# Altium footprint library LIBRARIE_EMILE.PcbLib: 20 footprints (part 1 of 2)
Each footprint in its own frame and in the unit in brackets; x right, y up, seen from the top. Pads: shape width x height; smd on the part's side, far side on the other; paste and mask are expansions set on the pad; w line width, h text height; cw(c..) or ccw(c..) is an arc to the next point about the centre after c.
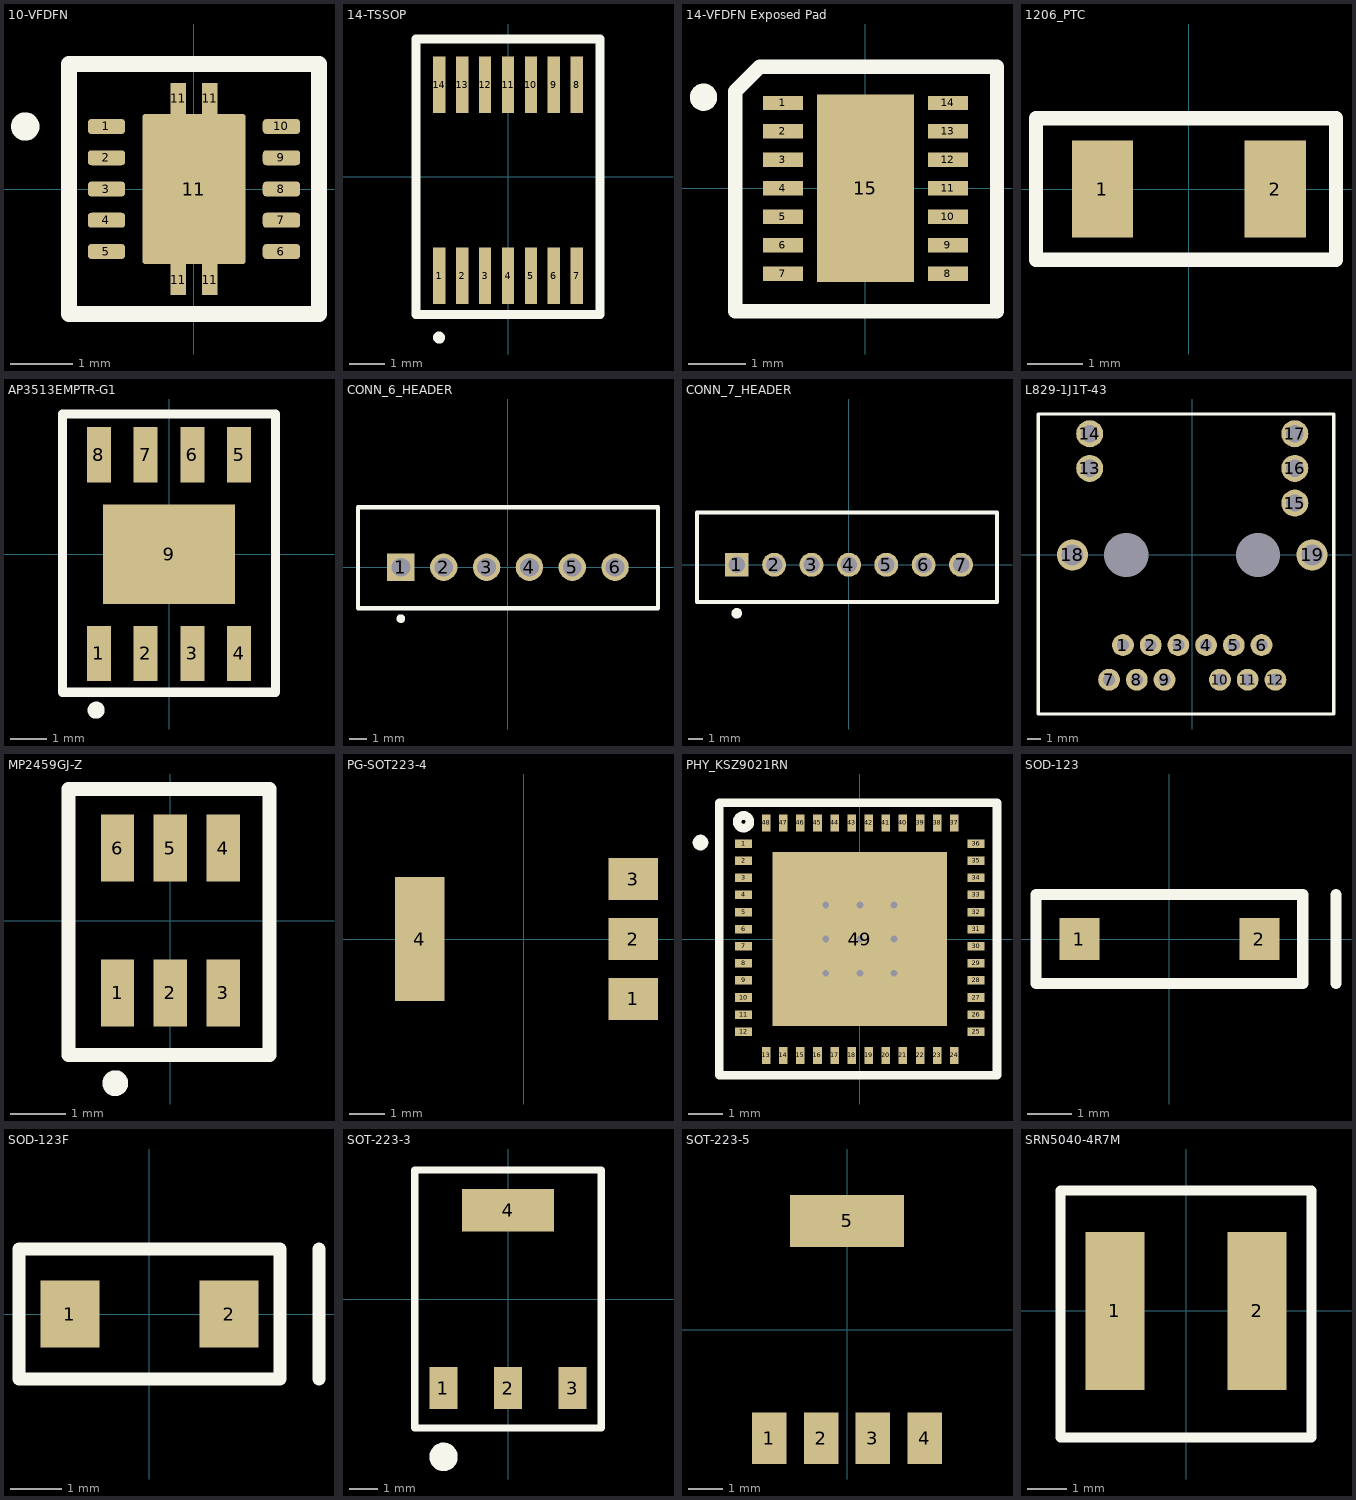
[diagram p0: the footprints below, top view; thin cyan lines are the x and y axes]

## 10-VFDFN [mm]
pads (15):
  rrect50% 0.6x0.24 smd paste-0.025 mask+0.05: 1(-1.4,1) 2(-1.4,0.5) 3(-1.4,0) 4(-1.4,-0.5) 5(-1.4,-1) 6(1.4,-1) 7(1.4,-0.5) 8(1.4,0) 9(1.4,0.5) 10(1.4,1)
  rrect5% 0.25x0.5 smd paste-0.025 mask+0.05: 11(-0.25,-1.45) 11(-0.25,1.45) 11(0.25,-1.45) 11(0.25,1.45)
  rrect5% 1.65x2.4 smd paste-0.025 mask+0.05: 11(0,0)
Top Overlay:
  circle w0.254: c-2.7,1 r0.1
  lines w0.254: -2,-2 -2,2 2,2 2,-2 -2,-2
3D body "10-VFDFN.step": height 1, standoff 0, extent -1.56,-1.562 1.56,1.562

## 14-TSSOP [mm]
pads (14):
  rect 0.35x1.6 smd paste+0 mask+0.05: 1(-1.95,-2.8) 2(-1.3,-2.8) 3(-0.65,-2.8) 4(0,-2.8) 5(0.65,-2.8) 6(1.3,-2.8) 7(1.95,-2.8) 8(1.95,2.6) 9(1.3,2.6) 10(0.65,2.6) 11(0,2.6) 12(-0.65,2.6) 13(-1.3,2.6) 14(-1.95,2.6)
Top Overlay:
  circle w0.254: c-1.95,-4.55 r0.041
  lines w0.254: -2.6,-3.9 2.6,-3.9 2.6,3.9 -2.6,3.9 -2.6,-3.9
3D body "User Library-tssop14-2.step": height 1.2, standoff 0, extent -2.55,-3.2 2.55,3.2

## 14-VFDFN Exposed Pad [mm]
pads (15):
  rect 0.7x0.25 smd paste-0.025 mask+0.07: 1(-1.45,1.5) 2(-1.45,1) 3(-1.45,0.5) 4(-1.45,0) 5(-1.45,-0.5) 6(-1.45,-1) 7(-1.45,-1.5) 8(1.45,-1.5) 9(1.45,-1) 10(1.45,-0.5) 11(1.45,0) 12(1.45,0.5) 13(1.45,1) 14(1.45,1.5)
  rect 1.7x3.3 smd paste-0.025 mask+0.07: 15(0,0)
Top Overlay:
  circle w0.254: c-2.845,1.6 r0.114
  lines w0.254: -2.286,-2.159 -2.286,1.702 -1.854,2.134 2.311,2.134 2.311,-2.159 -2.286,-2.159
3D body "DFN-14-1EP_3x4mm_P0.5mm_EP1.7x3.3mm.step": height 0.77, standoff 0, extent -1.5,-1.99 1.5,1.99

## 1206_PTC [mm]
pads (2):
  rect 1.1x1.75 smd paste+0.025 mask+0.07: 1(-1.55,0) 2(1.55,0)
Top Overlay:
  lines w0.254: -2.743,-1.27 -2.743,1.27 2.642,1.27 2.642,-1.27 -2.743,-1.27
3D body "User Library-nona SMD075F.step": height 0.56, standoff 0, extent -1.525,-0.8 1.677,0.852

## AP3513EMPTR-G1 [mm] "SW REG"
pads (9):
  rect 0.65x1.5 smd paste-0.025 mask+0.07: 1(-1.905,-2.7) 2(-0.635,-2.7) 3(0.635,-2.7) 4(1.905,-2.7) 5(1.905,2.7) 6(0.635,2.7) 7(-0.635,2.7) 8(-1.905,2.7)
  rect 3.6x2.7 smd paste-0.025 mask+0.07: 9(0,0)
Top Overlay:
  circle w0.254: c-1.981,-4.242 r0.105
  lines w0.254: -2.896,-3.759 2.896,-3.759 2.896,3.81 -2.896,3.81 -2.896,-3.759
3D body "SO-8.step": height 1.7, standoff 0, extent -2.45,-3 2.45,3

## CONN_6_HEADER [mm]
pads (6):
  rect 1.6x1.6 hole 1.1: 1(-6.25,0)
  round 1.6 hole 1.1: 2(-3.75,0) 3(-1.25,0) 4(1.25,0) 5(3.75,0) 6(6.25,0)
Top Overlay:
  circle w0.254: c-6.25,-3 r0.127
  lines w0.254: -8.75,-2.388 -8.75,3.5 8.751,3.5 8.751,-2.388 -8.75,-2.388
3D body "User Library-jst-b6b-xh-a.step": height 7, standoff -3.4, extent -8.649,-2.388 8.751,3.362

## CONN_7_HEADER [mm]
pads (7):
  rect 1.6x1.6 hole 1.1 mask+0.07: 1(-7.5,0)
  round 1.6 hole 1.1 mask+0.07: 2(-5,0) 3(-2.5,0) 4(0,0) 5(2.5,0) 6(5,0) 7(7.5,0)
Top Overlay:
  circle w0.4: c-7.5,-3.25 r0.152
  lines w0.254: -10.16,-2.5 -10.16,3.5 9.906,3.5 9.906,-2.5 -10.16,-2.5
3D body "User Library-B7B-XH-A.step": height 7, standoff -3.4, extent -9.994,-2.392 9.906,3.358

## L829-1J1T-43 [mil]
pads (21):
  round 63 hole 35 paste+0 mask+2.7: 1(-200,-260) 2(-120,-260) 3(-40,-260) 4(40,-260) 5(120,-260) 6(200,-260) 7(-240,-360) 8(-160,-360) 9(-80,-360) 10(80,-360) 11(160,-360) 12(240,-360)
  round 78 hole 50 paste+0 mask+2.7: 13(-296,250) 14(-296,350) 15(296,150) 16(296,250) 17(296,350)
  round 90 hole 62 paste+0 mask+2.7: 18(-346,0) 19(346,0)
  round 0 hole 128 paste+0 mask+2.7: ""(-190,0) ""(190,0)
Top Overlay:
  lines w10: 405,407 -444,407 -444,-459 408,-459 408,407
3D body "User Library-BEL FUSE L829-1J1T-43.step": height 493.09, standoff -151.5, extent -400.6,-424 400.6,543

## MP2459GJ-Z [mm]
pads (6):
  rect 0.6x1.2 smd paste-0.025 mask+0.07: 1(-0.95,-1.3) 2(0,-1.3) 3(0.95,-1.3) 4(0.95,1.3) 5(0,1.3) 6(-0.95,1.3)
Top Overlay:
  circle w0.254: c-0.991,-2.921 r0.105
  lines w0.254: -1.829,-2.413 1.778,-2.413 1.778,2.362 -1.829,2.362 -1.829,-2.413
3D body "User Library-TSOT-23.step": height 0.86, standoff 0, extent -1.5,-1.405 1.5,1.405

## PG-SOT223-4 [mm]
pads (4):
  rect 1.4x1.2 smd paste-0.025 mask+0.07: 1(3.1,-1.7) 2(3.1,0) 3(3.1,1.7)
  rect 1.4x3.5 smd paste-0.025 mask+0.07: 4(-2.95,0)

## PHY_KSZ9021RN [mm] "QFN, 48-Leads, Body 7,00x7,00mm, Pitch 0,50mm, Thermal Pad 5,10x5,10mm, IPC Medium Density"
height 0.9
pads (49):
  rect 0.5x0.25 smd mask+0.05: 1(-3.4,2.79) 2(-3.4,2.29) 3(-3.4,1.79) 4(-3.4,1.29) 5(-3.4,0.79) 6(-3.4,0.29) 7(-3.4,-0.21) 8(-3.4,-0.71) 9(-3.4,-1.21) 10(-3.4,-1.71) 11(-3.4,-2.21) 12(-3.4,-2.71) 25(3.4,-2.71) 26(3.4,-2.21) 27(3.4,-1.71) 28(3.4,-1.21) 29(3.4,-0.71) 30(3.4,-0.21) 31(3.4,0.29) 32(3.4,0.79) 33(3.4,1.29) 34(3.4,1.79) 35(3.4,2.29) 36(3.4,2.79)
  rect 0.25x0.5 smd mask+0.05: 13(-2.74,-3.4) 14(-2.24,-3.4) 15(-1.74,-3.4) 16(-1.24,-3.4) 17(-0.74,-3.4) 18(-0.24,-3.4) 19(0.26,-3.4) 20(0.76,-3.4) 21(1.26,-3.4) 22(1.76,-3.4) 23(2.26,-3.4) 24(2.76,-3.4) 37(2.76,3.4) 38(2.26,3.4) 39(1.76,3.4) 40(1.26,3.4) 41(0.76,3.4) 42(0.26,3.4) 43(-0.24,3.4) 44(-0.74,3.4) 45(-1.24,3.4) 46(-1.74,3.4) 47(-2.24,3.4) 48(-2.74,3.4)
  rect 5.1x5.1 smd mask+0.05: 49(0,0)
via 1,-1 diameter 0.5 hole 0.2
via 0,-1 diameter 0.5 hole 0.2
via -1,-1 diameter 0.5 hole 0.2
via 1,0 diameter 0.5 hole 0.2
via 0,0 diameter 0.5 hole 0.2
via -1,0 diameter 0.5 hole 0.2
via 1,1 diameter 0.5 hole 0.2
via 0,1 diameter 0.5 hole 0.2
via -1,1 diameter 0.5 hole 0.2
Top Overlay:
  circle w0.254: c-4.663,2.823 r0.101
  circle w0.254: c-3.404,3.429 r0.186
  lines w0.254: -4.11,-3.984 4.01,-3.984 4.01,3.987 -4.11,3.987 -4.11,-3.984
3D body: height 0.9, standoff 0, extent -3.525,-3.525 3.525,3.525

## SOD-123 [mm]
pads (2):
  rect 0.9x0.95 smd paste-0.025 mask+0.07: 1(-2.025,0) 2(2.025,0)
Top Overlay:
  lines w0.254: 3.75,-1 3.75,1 ; -3,-1 3,-1 3,1 -3,1 -3,-1
3D body "SOD123.step": height 1.27, standoff 0, extent -1.85,-0.8 1.85,0.8

## SOD-123F [mm]
pads (2):
  rect 1.15x1.3 smd paste-0.025 mask+0.07: 1(-1.55,0) 2(1.55,0)
Top Overlay:
  lines w0.254: 3.302,-1.27 3.302,1.27 ; -2.54,-1.27 2.54,-1.27 2.54,1.27 -2.54,1.27 -2.54,-1.27
3D body "User Library-SOD123F.step": height 1.2, standoff -0.01, extent -1.85,-0.85 1.9,0.85

## SOT-223-3 [mil]
pads (4):
  rect 39x59 smd paste-0.98 mask+2.76: 1(-90,-124) 2(0,-124) 3(90,-124)
  rect 129x59 smd paste-0.98 mask+2.76: 4(0,124)
Top Overlay:
  circle w19.68: c-90,-220 r10
  lines w10: -130,-180 -130,180 130,180 130,-180 -130,-180
3D body "SOT-3_ST.step": height 71.1, standoff 0, extent -132.01,-143.5 132.01,143.5

## SOT-223-5 [mm]
pads (5):
  rect 1x1.5 smd paste-0.025 mask+0.07: 1(-2.25,-3.15) 2(-0.75,-3.15) 3(0.75,-3.15) 4(2.25,-3.15)
  rect 3.3x1.5 smd paste-0.025 mask+0.07: 5(0,3.15)
3D body "MP05A.step": height 1.81, standoff 0, extent -3.353,-3.645 3.353,3.645

## SRN5040-4R7M [mm] "inductor"
pads (2):
  rect 1.5x4 smd paste-0.025 mask+0.07: 1(-1.8,0) 2(1.8,0)
Top Overlay:
  lines w0.254: -3.175,-3.2 3.175,-3.2 3.175,3.048 -3.175,3.048 -3.175,-3.2
3D body "User Library-SRN5040.step": height 4, standoff 0, extent -2.5,-2.525 2.5,2.475